# Altium schematic symbol library SCH - DIODES - ON SEMICONDUCTOR BAS16LT1G.SCHLIB: 1 symbol
Pins are listed as number, name and electrical type; pins without a type are passive.

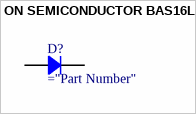
[diagram p0: symbol ON SEMICONDUCTOR BAS16LT1G]

## ON SEMICONDUCTOR BAS16LT1G
designator D?
Rectifier Diode
pins: 1, 3